# Altium footprint library ConnectorsGOST.PcbLib: 50 footprints (part 3 of 4)
Each footprint in its own frame and in the unit in brackets; x right, y up, seen from the top. Pads: shape width x height; smd on the part's side, far side on the other; paste and mask are expansions set on the pad; w line width, h text height; cw(c..) or ccw(c..) is an arc to the next point about the centre after c.
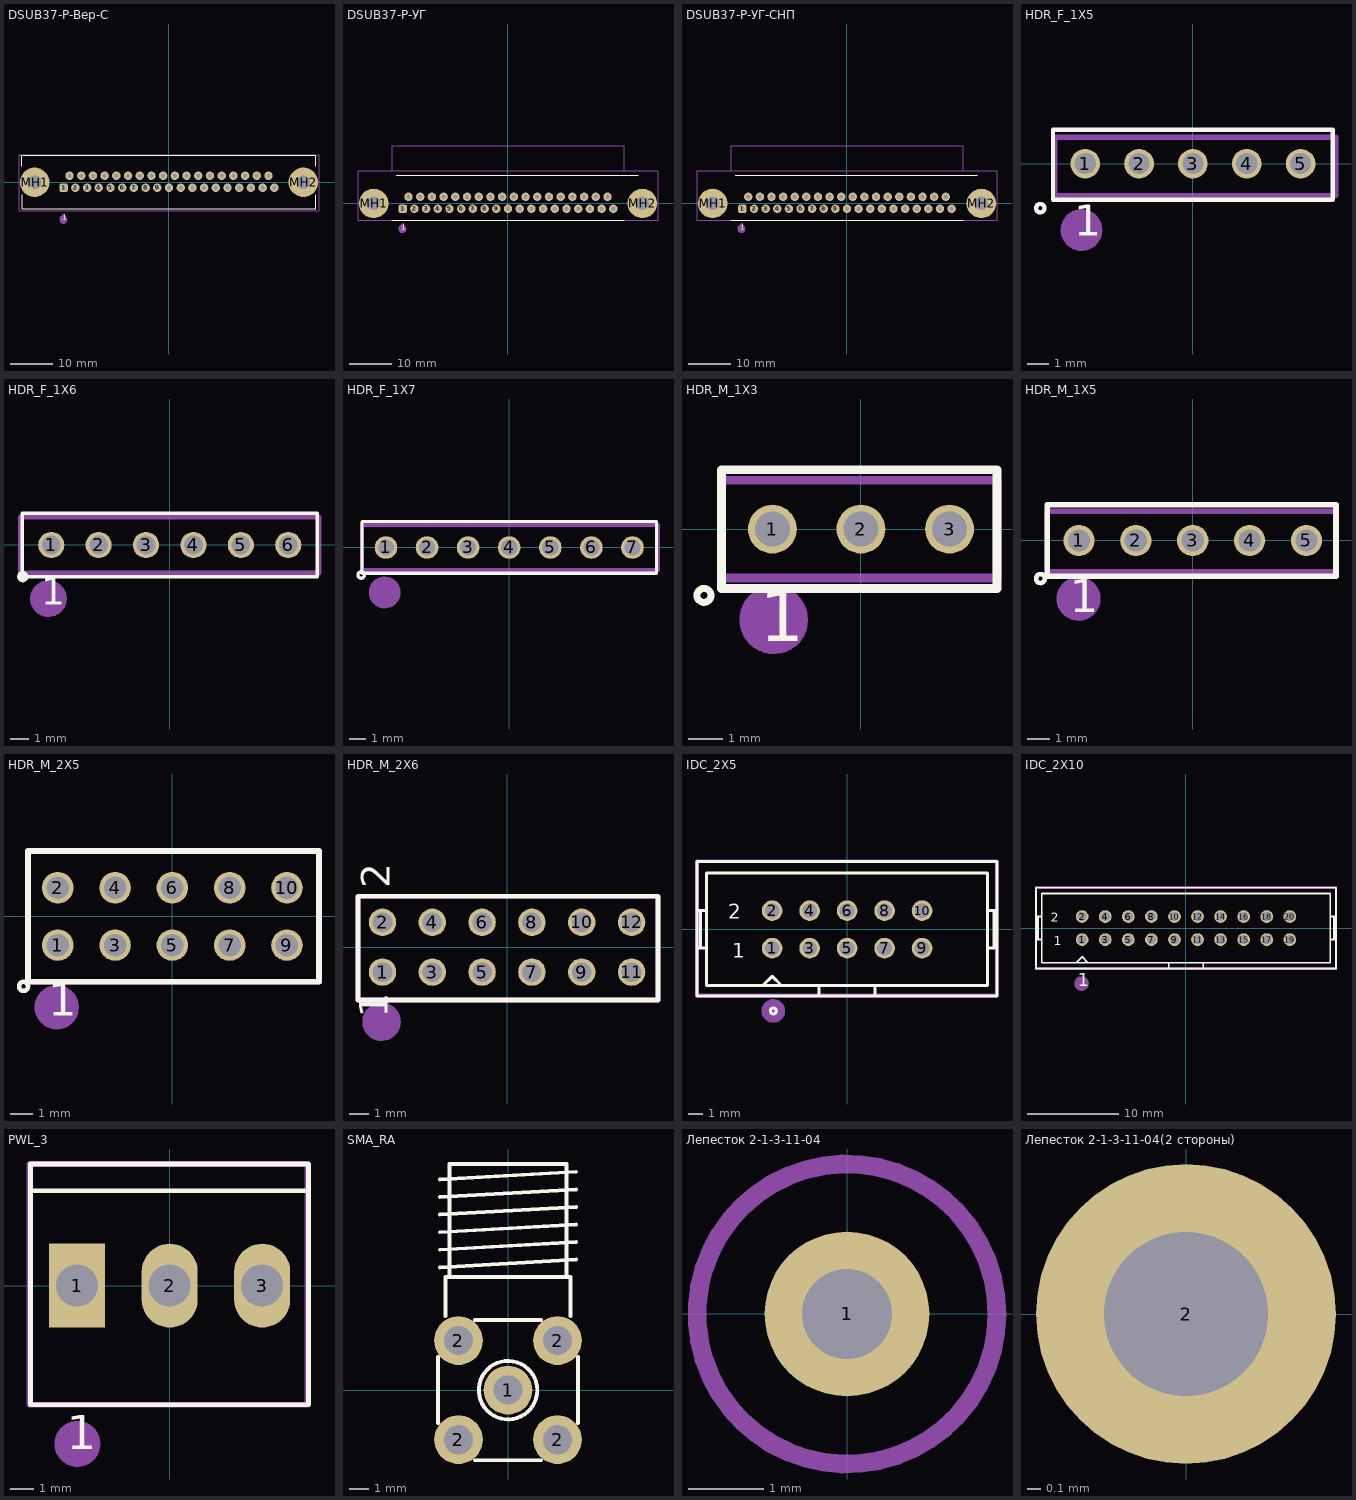
[diagram p2: the footprints below, top view; thin cyan lines are the x and y axes]

## DSUB37-Р-Вер-С [mm] "CONN, DSUB MINIATURE, CONN, DSUB MINIATURE, 37PIN, R/A, FEMALE"
pads (39):
  rrect50% 2x2 hole 1 mask+0.1: 1(-24.93,-1.27)
  round 2 hole 1 mask+0.1: 2(-22.16,-1.27) 3(-19.39,-1.27) 4(-16.62,-1.27) 5(-13.85,-1.27) 6(-11.08,-1.27) 7(-8.31,-1.27) 8(-5.54,-1.27) 9(-2.77,-1.27) 10(0,-1.27) 11(2.77,-1.27) 12(5.54,-1.27) 13(8.31,-1.27) 14(11.08,-1.27) 15(13.85,-1.27) 16(16.62,-1.27) 17(19.39,-1.27) 18(22.16,-1.27) 19(24.93,-1.27) 20(-23.545,1.57) 21(-20.775,1.57) 22(-18.005,1.57) 23(-15.235,1.57) 24(-12.465,1.57) 25(-9.695,1.57) 26(-6.925,1.57) 27(-4.155,1.57) 28(-1.385,1.57) 29(1.385,1.57) 30(4.155,1.57) 31(6.925,1.57) 32(9.695,1.57) 33(12.465,1.57) 34(15.235,1.57) 35(18.005,1.57) 36(20.775,1.57) 37(23.545,1.57)
  round 7 / inner round 4.2 / far side round 7 hole 3.2: MH1(-31.8,0) MH2(31.8,0)
Top Overlay:
  lines w0.2: -34.713,-2.963 -34.713,-6.3 34.713,-6.3 34.713,-2.963
  lines w0.25: -34.8,3.8 -34.8,6.45 ; 34.7,3.8 34.7,6.2
  lines w0.254: -34.6,6.4 34.5,6.4 34.7,6.2 ; 34.6,-2.9 34.7,-3
  text "1" at -25.4,-9.6 h2.5
Top Sborka:
  circle w0.25: c-25,-8.8 r0.704
  circle w0.25: c-25,-8.8 r0.292
  circle w0.25: c-25,-8.8 r0.861
  circle w0.25: c-25,-8.8 r0.506
  circle w0.25: c-25,-8.8 r0.09
  circle w0.8: c-25,-8.8 r0.4
  lines w0.25: -35.5,-6.75 35.5,-6.75 35.5,6.5 -35.5,6.5 -35.5,-6.75
Top Designator (Mech16):
  text ".Designator" at -5.15,-0.447 h2.5
3D body "Сборка D-SUB37-Р-Вер-С.stp": height 11.8, standoff -5.02, extent -34.8,-6.1 34.6,6.4

## DSUB37-Р-УГ [mm] "CONN, DSUB MINIATURE, CONN, DSUB MINIATURE, 37PIN, R/A, FEMALE"
pads (39):
  rrect50% 2x2 hole 1 mask+0.1: 1(-24.93,-1.27)
  round 2 hole 1 mask+0.1: 2(-22.16,-1.27) 3(-19.39,-1.27) 4(-16.62,-1.27) 5(-13.85,-1.27) 6(-11.08,-1.27) 7(-8.31,-1.27) 8(-5.54,-1.27) 9(-2.77,-1.27) 10(0,-1.27) 11(2.77,-1.27) 12(5.54,-1.27) 13(8.31,-1.27) 14(11.08,-1.27) 15(13.85,-1.27) 16(16.62,-1.27) 17(19.39,-1.27) 18(22.16,-1.27) 19(24.93,-1.27) 20(-23.545,1.57) 21(-20.775,1.57) 22(-18.005,1.57) 23(-15.235,1.57) 24(-12.465,1.57) 25(-9.695,1.57) 26(-6.925,1.57) 27(-4.155,1.57) 28(-1.385,1.57) 29(1.385,1.57) 30(4.155,1.57) 31(6.925,1.57) 32(9.695,1.57) 33(12.465,1.57) 34(15.235,1.57) 35(18.005,1.57) 36(20.775,1.57) 37(23.545,1.57)
  round 7 / inner round 4.2 / far side round 7 hole 3.2: MH1(-31.8,0) MH2(31.8,0)
Top Overlay:
  lines w0.15: -26.4,6.7 30.8,6.7
  lines w0.2: -27.5,-4 27.5,-4
  text "1" at -25.4,-6.8 h2.5
Top Sborka:
  circle w0.25: c-25,-6 r0.704
  circle w0.25: c-25,-6 r0.292
  circle w0.25: c-25,-6 r0.861
  circle w0.25: c-25,-6 r0.506
  circle w0.25: c-25,-6 r0.09
  circle w0.8: c-25,-6 r0.4
  lines w0.25: -35.5,-4 35.5,-4 35.5,7.7 -35.5,7.7 -35.5,-4 ; -27.4,7.7 -27.4,13.7 27.5,13.7 27.5,7.7 -27.4,7.7
Top Designator (Mech16):
  text ".Designator" at -5.15,-0.547 h2.5
3D body "connector_a-dSUB37RF_a_kg-t1.stp": height 12.57, standoff -4.3, extent -34.66,-2.9 34.66,17.9

## DSUB37-Р-УГ-СНП [mm] "CONN, DSUB MINIATURE, CONN, DSUB MINIATURE, 37PIN, R/A, FEMALE"
pads (39):
  rrect50% 2x2 hole 1 mask+0.1: 1(-24.75,-1.27)
  round 2 hole 1 mask+0.1: 2(-22,-1.27) 3(-19.25,-1.27) 4(-16.5,-1.27) 5(-13.75,-1.27) 6(-11,-1.27) 7(-8.25,-1.27) 8(-5.5,-1.27) 9(-2.75,-1.27) 10(0,-1.27) 11(2.75,-1.27) 12(5.5,-1.27) 13(8.25,-1.27) 14(11,-1.27) 15(13.75,-1.27) 16(16.5,-1.27) 17(19.25,-1.27) 18(22,-1.27) 19(24.75,-1.27) 20(-23.375,1.57) 21(-20.625,1.57) 22(-17.875,1.57) 23(-15.125,1.57) 24(-12.375,1.57) 25(-9.625,1.57) 26(-6.875,1.57) 27(-4.125,1.57) 28(-1.375,1.57) 29(1.375,1.57) 30(4.125,1.57) 31(6.875,1.57) 32(9.625,1.57) 33(12.375,1.57) 34(15.125,1.57) 35(17.875,1.57) 36(20.625,1.57) 37(23.375,1.57)
  round 7 / inner round 4.2 / far side round 7 hole 3.2: MH1(-31.8,0) MH2(31.8,0)
Top Overlay:
  lines w0.15: -26.4,6.7 30.8,6.7
  lines w0.2: -27.5,-4 27.5,-4
  text "1" at -25.4,-6.8 h2.5
Top Sborka:
  circle w0.25: c-25,-6 r0.704
  circle w0.25: c-25,-6 r0.292
  circle w0.25: c-25,-6 r0.861
  circle w0.25: c-25,-6 r0.506
  circle w0.25: c-25,-6 r0.09
  circle w0.8: c-25,-6 r0.4
  lines w0.25: -35.5,-4 35.5,-4 35.5,7.7 -35.5,7.7 -35.5,-4 ; -27.4,7.7 -27.4,13.7 27.5,13.7 27.5,7.7 -27.4,7.7
Top Designator (Mech16):
  text ".Designator" at -5.15,-0.547 h2.5
3D body "connector_a-dSUB37RF_a_kg-t1.stp": height 12.57, standoff -4.3, extent -34.66,-2.9 34.66,17.9

## HDR_F_1X5 [mm] "HEADER FEMALE pitch: 2.54mm"
height 8.5
pads (5):
  round 1.4 / inner round 1.4 / far side oval 1.4x2.2 hole 1 mask+0.1: 1(-5.08,0) 2(-2.54,0) 3(0,0) 4(2.54,0) 5(5.08,0)
Top Overlay:
  circle w0.2: c-7.2,-2.1 r0.2
  lines w0.2: -6.6,-1.7 6.6,-1.7 6.6,1.6 -6.6,1.6 -6.6,-1.7
  text "1" at -5.6,-3.9 h2.5
Top Sborka:
  circle w0.8: c-5.251,-3.131 r0.4
  circle w0.25: c-5.251,-3.131 r0.09
  circle w0.25: c-5.251,-3.131 r0.506
  circle w0.25: c-5.251,-3.131 r0.861
  circle w0.25: c-5.251,-3.131 r0.292
  circle w0.25: c-5.251,-3.131 r0.704
  lines w0.25: -6.5,-1.5 6.75,-1.5 6.75,1.25 -6.5,1.25 -6.5,-1.5
Top Designator (Mech16):
  text ".Designator" at -5.15,-0.547 h2.5
3D body "female_header_a-bl254-eg-g02d.stp": height 8.5, standoff -3.2, extent 1.145,-1.3 6.475,1.2
3D body "female_header_a-bl254-eg-g03d.stp": height 8.5, standoff -3.2, extent -6.475,-1.3 1.395,1.2

## HDR_F_1X6 [mm] "HEADER FEMALE pitch: 2.54mm"
height 8.5
pads (6):
  round 1.4 / inner round 1.4 / far side oval 1.4x2.2 hole 1 mask+0.1: 1(-6.35,0) 2(-3.81,0) 3(-1.27,0) 4(1.27,0) 5(3.81,0) 6(6.35,0)
Top Overlay:
  circle w0.2: c-7.88,-1.7 r0.2
  lines w0.2: -7.9,-1.7 -7.9,1.7 7.9,1.7 7.9,-1.7 -7.9,-1.7
  text "1" at -6.9,-3.7 h2.5
Top Sborka:
  circle w0.25: c-6.501,-2.881 r0.704
  circle w0.25: c-6.501,-2.881 r0.292
  circle w0.25: c-6.501,-2.881 r0.861
  circle w0.25: c-6.501,-2.881 r0.506
  circle w0.25: c-6.501,-2.881 r0.09
  circle w0.8: c-6.501,-2.881 r0.4
  lines w0.25: -8,-1.5 8,-1.5 8,1.5 -8,1.5 -8,-1.5
Top Designator (Mech16):
  text ".Designator" at -5.15,-0.647 h2.5
3D body "female_header_a-bl254-eg-g03d.stp": height 8.5, standoff -3.2, extent -7.745,-1.3 0.125,1.2
3D body "female_header_a-bl254-eg-g03d.stp": height 8.5, standoff -3.2, extent -0.125,-1.3 7.745,1.2

## HDR_F_1X7 [mm] "HEADER FEMALE pitch: 2.54mm"
height 8.5
pads (7):
  round 1.4 / inner round 1.4 / far side oval 1.4x2.2 hole 1 mask+0.1: 1(-7.62,0) 2(-5.08,0) 3(-2.54,0) 4(0,0) 5(2.54,0) 6(5.08,0) 7(7.62,0)
Top Overlay:
  circle w0.2: c-9.15,-1.7 r0.2
  lines w0.2: -9.1,-1.6 -9.1,1.6 9.1,1.6 9.1,-1.6 -9.1,-1.6
Top Sborka:
  circle w0.25: c-7.701,-2.781 r0.704
  circle w0.25: c-7.701,-2.781 r0.292
  circle w0.25: c-7.701,-2.781 r0.861
  circle w0.25: c-7.701,-2.781 r0.506
  circle w0.25: c-7.701,-2.781 r0.09
  circle w0.8: c-7.701,-2.781 r0.4
  lines w0.25: -9.1,-1.4 9.2,-1.4 9.2,1.4 -9.1,1.4 -9.1,-1.4
Top Designator (Mech16):
  text ".Designator" at -5.15,-0.547 h2.5
3D body "female_header_a-bl254-eg-g02d.stp": height 8.5, standoff -3.2, extent 3.685,-1.3 9.015,1.2
3D body "female_header_a-bl254-eg-g03d.stp": height 8.5, standoff -3.2, extent -9.015,-1.3 -1.145,1.2
3D body "female_header_a-bl254-eg-g02d.stp": height 8.5, standoff -3.2, extent -1.395,-1.3 3.935,1.2

## HDR_M_1X3 [mm] "Connector; Header; 3 Position"
height 8.5
pads (3):
  round 1.4 / inner round 1.4 / far side oval 1.4x2.2 hole 1 mask+0.1: 1(-2.54,0) 2(0,0) 3(2.54,0)
Top Overlay:
  circle w0.2: c-4.5,-1.9 r0.2
  lines w0.25: -4,-1.7 3.9,-1.7 3.9,1.7 -4,1.7 -4,-1.7
  text "1" at -2.9,-3.7 h2.5
Top Sborka:
  circle w0.25: c-2.5,-2.6 r0.704
  circle w0.25: c-2.5,-2.6 r0.292
  circle w0.25: c-2.5,-2.6 r0.861
  circle w0.25: c-2.5,-2.6 r0.506
  circle w0.25: c-2.5,-2.6 r0.09
  circle w0.8: c-2.5,-2.6 r0.4
  lines w0.25: -4,-1.4 3.9,-1.4 3.9,1.4 -4,1.4 -4,-1.4
Top Designator (Mech16):
  text ".Designator" at -5.15,-0.547 h2.5
3D body "PLS-1.step": height 8.54, standoff -2.9, extent 1.295,-1.27 3.835,1.27
3D body "PLS-1.step": height 8.54, standoff -2.9, extent -3.785,-1.27 -1.245,1.27
3D body "PLS-1.step": height 8.54, standoff -2.9, extent -1.245,-1.27 1.295,1.27

## HDR_M_1X5 [mm] "Connector; Header; 5 Position"
height 8.5
pads (5):
  round 1.4 / inner round 1.4 / far side oval 1.4x2.2 hole 1 mask+0.1: 1(-5.08,0) 2(-2.54,0) 3(0,0) 4(2.54,0) 5(5.08,0)
Top Overlay:
  circle w0.2: c-6.8,-1.7 r0.2
  lines w0.25: -6.5,-1.6 6.4,-1.6 6.4,1.6 -6.5,1.6 -6.5,-1.6
  text "1" at -5.5,-3.7 h2.5
Top Sborka:
  circle w0.25: c-5.1,-2.6 r0.704
  circle w0.25: c-5.1,-2.6 r0.292
  circle w0.25: c-5.1,-2.6 r0.861
  circle w0.25: c-5.1,-2.6 r0.506
  circle w0.25: c-5.1,-2.6 r0.09
  circle w0.8: c-5.1,-2.6 r0.4
  lines w0.25: -6.5,-1.4 6.4,-1.4 6.4,1.3 -6.5,1.3 -6.5,-1.4
Top Designator (Mech16):
  text ".Designator" at -5.15,-0.547 h2.5
3D body "PLS-1.step": height 8.54, standoff -2.9, extent -1.27,-1.27 1.27,1.27
3D body "PLS-1.step": height 8.54, standoff -2.9, extent -3.81,-1.27 -1.27,1.27
3D body "PLS-1.step": height 8.54, standoff -2.9, extent -6.35,-1.27 -3.81,1.27
3D body "PLS-1.step": height 8.54, standoff -2.9, extent 1.27,-1.27 3.81,1.27
3D body "PLS-1.step": height 8.54, standoff -2.9, extent 3.81,-1.27 6.35,1.27

## HDR_M_2X5 [mm] "Male Header 2X05 with 2.54 mm Pitch"
height 8.5
pads (10):
  round 1.4 / inner round 1.4 / far side oval 1.4x2.2 hole 1: 1(-5.08,-1.27) 2(-5.08,1.27) 3(-2.54,-1.27) 4(-2.54,1.27) 5(0,-1.27) 6(0,1.27) 7(2.54,-1.27) 8(2.54,1.27) 9(5.08,-1.27) 10(5.08,1.27)
Top Overlay:
  circle w0.2: c-6.6,-3.1 r0.2
  lines w0.25: -6.4,-2.9 6.5,-2.9 6.5,2.9 -6.4,2.9 -6.4,-2.9
  text "1" at -5.5,-4.9 h2.5
Top Sborka:
  circle w0.8: c-5.125,-4.025 r0.4
  circle w0.25: c-5.125,-4.025 r0.09
  circle w0.25: c-5.125,-4.025 r0.506
  circle w0.25: c-5.125,-4.025 r0.861
  circle w0.25: c-5.125,-4.025 r0.292
  circle w0.25: c-5.125,-4.025 r0.704
  lines w0.25: -6.4,-2.9 6.5,-2.9 6.5,2.9 -6.4,2.9 -6.4,-2.9
Top Designator (Mech16):
  text ".Designator" at -5.15,-0.547 h2.5
3D body "PIN.STEP": height 8.43, standoff -2.49, extent 3.81,-2.54 6.35,0
3D body "PIN.STEP": height 8.43, standoff -2.49, extent 3.81,0 6.35,2.54
3D body "PIN.STEP": height 8.43, standoff -2.49, extent -6.35,0 -3.81,2.54
3D body "PIN_mid.STEP": height 8.43, standoff -2.49, extent 1.27,-2.54 3.81,0
3D body "PIN_mid.STEP": height 8.43, standoff -2.49, extent -1.27,-2.54 1.27,0
3D body "PIN_mid.STEP": height 8.43, standoff -2.49, extent -3.81,-2.54 -1.27,0
3D body "PIN_mid.STEP": height 8.43, standoff -2.49, extent -3.81,0 -1.27,2.54
3D body "PIN_mid.STEP": height 8.43, standoff -2.49, extent 1.27,0 3.81,2.54
3D body "PIN_mid.STEP": height 8.43, standoff -2.49, extent -1.27,0 1.27,2.54
3D body "PIN.STEP": height 8.43, standoff -2.49, extent -6.35,-2.54 -3.81,0

## HDR_M_2X6 [mm] "Male Header 2X06 with 2.54 mm Pitch"
pads (12):
  round 1.4 / inner round 1.4 / far side oval 1.4x2.2 hole 1: 1(-6.35,-1.27) 2(-6.35,1.27) 3(-3.81,-1.27) 4(-3.81,1.27) 5(-1.27,-1.27) 6(-1.27,1.27) 7(1.27,-1.27) 8(1.27,1.27) 9(3.81,-1.27) 10(3.81,1.27) 11(6.35,-1.27) 12(6.35,1.27)
Top Overlay:
  lines w0.25: -7.6,-2.7 7.7,-2.7 7.7,2.6 -7.6,2.6 -7.6,-2.7
  text "2" at -5.5,3 h2.5
  text "1" at -5.6,-3.6 h2.5
Top Sborka:
  circle w0.25: c-6.4,-3.8 r0.704
  circle w0.25: c-6.4,-3.8 r0.292
  circle w0.25: c-6.4,-3.8 r0.861
  circle w0.25: c-6.4,-3.8 r0.506
  circle w0.25: c-6.4,-3.8 r0.09
  circle w0.8: c-6.4,-3.8 r0.4
  lines w0.25: -7.6,-2.7 7.7,-2.7 7.7,2.6 -7.6,2.6 -7.6,-2.7
Top Designator (Mech16):
  text ".Designator" at -5.15,-0.547 h2.5
3D body "PIN.STEP": height 8.43, standoff -2.49, extent 5.08,-2.54 7.62,0
3D body "PIN.STEP": height 8.43, standoff -2.49, extent 5.08,0 7.62,2.54
3D body "PIN.STEP": height 8.43, standoff -2.49, extent -7.62,0 -5.08,2.54
3D body "PIN_mid.STEP": height 8.43, standoff -2.49, extent 2.54,-2.54 5.08,0
3D body "PIN_mid.STEP": height 8.43, standoff -2.49, extent 0,-2.54 2.54,0
3D body "PIN_mid.STEP": height 8.43, standoff -2.49, extent -2.54,-2.54 0,0
3D body "PIN_mid.STEP": height 8.43, standoff -2.49, extent -5.08,-2.54 -2.54,0
3D body "PIN_mid.STEP": height 8.43, standoff -2.49, extent -5.08,0 -2.54,2.54
3D body "PIN_mid.STEP": height 8.43, standoff -2.49, extent 2.54,0 5.08,2.54
3D body "PIN_mid.STEP": height 8.43, standoff -2.49, extent 0,0 2.54,2.54
3D body "PIN_mid.STEP": height 8.43, standoff -2.49, extent -2.54,0 0,2.54
3D body "PIN.STEP": height 8.43, standoff -2.49, extent -7.62,-2.54 -5.08,0

## IDC_2X5 [mm] "IDC, HEADER BOX 2X5, 10p, 2.54mm pitch"
pads (10):
  round 1.4 / inner round 1.4 / far side oval 1.4x2 hole 1 mask+0.1: 1(-5.08,-1.27) 2(-5.08,1.27) 3(-2.54,-1.27) 4(-2.54,1.27) 5(0,-1.27) 6(0,1.27) 7(2.54,-1.27) 8(2.54,1.27) 9(5.08,-1.27) 10(5.08,1.27)
Top Overlay:
  circle w0.2: c-5,-5.525 r0.2
  lines w0.2: -10.16,-1.27 -9.525,-1.27 ; -10.16,1.27 -9.525,1.27 ; -9.948,-1.27 -9.948,1.27 ; -5.715,-3.81 -5.08,-3.175 -4.445,-3.81 ; -1.905,-4.445 -1.905,-3.81 ; 1.905,-4.445 1.905,-3.81 ; 9.525,-1.27 10.16,-1.27 ; 9.525,1.27 10.16,1.27 ; 9.948,-1.27 9.948,1.27 ; -1.905,-3.81 -9.525,-3.81 -9.525,3.81 9.525,3.81 9.525,-3.81 1.905,-3.81 ; -1.905,-3.81 1.905,-3.81 ; -10.16,-4.5 -10.16,4.6 10.16,4.6 10.16,-4.5 -10.16,-4.5
  text "1" at -7.772,-1.93 h1
  text "2" at -8.052,0.737 h1
Top Sborka:
  circle w0.8: c-5,-5.525 r0.4
  lines w0.25: -10.175,-4.475 10.15,-4.475 10.15,4.625 -10.175,4.625 -10.175,-4.475
Top Designator (Mech16):
  text ".Designator" at -5.15,-0.547 h2.5
3D body "61201021621.stp": height 9.13, standoff -2.98, extent -10.18,-4.425 10.18,4.75

## IDC_2X10 [mm]
height 8.5
pads (20):
  round 1.4 / inner round 1.4 / far side oval 1.4x2 hole 1 mask+0.1: 1(-11.43,-1.27) 2(-11.43,1.27) 3(-8.89,-1.27) 4(-8.89,1.27) 5(-6.35,-1.27) 6(-6.35,1.27) 7(-3.81,-1.27) 8(-3.81,1.27) 9(-1.27,-1.27) 10(-1.27,1.27) 11(1.27,-1.27) 12(1.27,1.27) 13(3.81,-1.27) 14(3.81,1.27) 15(6.35,-1.27) 16(6.35,1.27) 17(8.89,-1.27) 18(8.89,1.27) 19(11.43,-1.27) 20(11.43,1.27)
Top Overlay:
  lines w0.2: -16.51,-1.27 -15.875,-1.27 ; -16.51,1.27 -15.875,1.27 ; -16.298,-1.27 -16.298,1.27 ; -12.065,-3.81 -11.43,-3.175 -10.795,-3.81 ; -1.905,-4.445 -1.905,-3.81 ; 1.905,-4.445 1.905,-3.81 ; 15.875,-1.27 16.51,-1.27 ; 15.875,1.27 16.51,1.27 ; 16.298,-1.27 16.298,1.27 ; -1.905,-3.81 1.905,-3.81 ; -1.905,-3.81 -15.875,-3.81 -15.875,3.81 15.875,3.81 15.875,-3.81 1.905,-3.81 ; -16.51,-4.445 16.51,-4.445 16.51,4.445 -16.51,4.445 -16.51,-4.445
  text "1" at -14.529,-1.905 h1
  text "2" at -14.859,0.686 h1
  text "1" at -11.9,-6.9 h2.5
Top Sborka:
  circle w0.8: c-11.5,-6.1 r0.4
  lines w0.25: -16.5,-4.468 16.513,-4.468 16.513,4.5 -16.5,4.5 -16.5,-4.468
Top Designator (Mech16):
  text ".Designator" at -5.15,-0.547 h2.5
3D body "61202021621.stp": height 9.13, standoff -2.98, extent -16.53,-4.425 16.53,4.75

## PWL_3 [mm] "Connector; Header; 3 Position"
height 8.5
pads (3):
  rect 2.4x3.6 hole 1.8: 1(-3.96,0)
  oval 2.4x3.6 hole 1.8: 2(0,0) 3(3.96,0)
Top Overlay:
  lines w0.2: -5.96,4.064 5.94,4.064 ; -5.96,-5.1 5.94,-5.1 5.94,5.207 -5.96,5.207 -5.96,-5.1
  text "1" at -4.4,-7.5 h2.5
Top Sborka:
  circle w0.25: c-3.95,-6.775 r0.09
  circle w0.25: c-3.95,-6.775 r0.506
  circle w0.25: c-3.95,-6.775 r0.861
  circle w0.25: c-3.95,-6.775 r0.292
  circle w0.25: c-3.95,-6.775 r0.704
  lines w0.25: -6,-5.1 5.9,-5.1 5.9,5.2 -6,5.2 -6,-5.1
Top Designator (Mech16):
  text ".Designator" at -5.15,-0.647 h2.5
3D body "PWL-3.stp": height 13.5, standoff -4, extent -5.94,-5 5.94,5

## SMA_RA [mm] "CONN, RF, COAX, SMA, RIGHT ANGLE THD"
pads (5):
  round 2.5 hole 1.5: 1(0,0) 2(-2.54,-2.54) 2(-2.54,2.54) 2(2.54,-2.54) 2(2.54,2.54)
Top Overlay:
  circle w0.2: c0,0 r1.5
  lines w0.2: -3.6,-1.7 -3.6,1.7 ; -3.5,6.3 3.5,6.7 ; -3.5,7.2 3.5,7.6 ; -3.5,8.1 3.5,8.5 ; -3.5,9 3.5,9.4 ; -3.5,9.9 3.5,10.3 ; -3.5,10.8 3.5,11.2 ; -3.2,3.8 -3.2,5.8 3.2,5.8 3.2,3.8 ; -3,5.8 -3,11.6 3,11.6 3,5.8 ; -1.7,-3.6 1.7,-3.6 ; -1.7,3.6 1.7,3.6 ; 3.6,-1.7 3.6,1.7
Top Designator (Mech16):
  text ".Designator" at -5.15,3.357 h2.5
3D body "SMA-J-P-H-RA-TH1.STEP": height 10.26, standoff -3.84, extent -3.5,-3.54 3.5,11.56

## Лепесток 2-1-3-11-04 [mm]
height 7.5
pads (1):
  round 2.2 hole 1.2: 1(0,0)
Top Sborka:
  circle w0.25: c0,0 r2.003
Top Designator (Mech16):
  text ".Designator" at -5.15,-0.547 h2.5
3D body "Лепесток 2-1.0-3.0-11.stp": height 8, standoff -3, extent -0.844,-0.85 0.844,0.85

## Лепесток 2-1-3-11-04(2 стороны) [mm]
pads (1):
  round 2.2 hole 1.2: 2(0,0)
Top Designator (Mech16):
  text ".Designator" at -5.15,-0.547 h2.5